# Altium integrated library Maxim_Integrated_Linear_Regulators.IntLib: 3 symbols
Pins are listed as number, name and electrical type; pins without a type are passive.

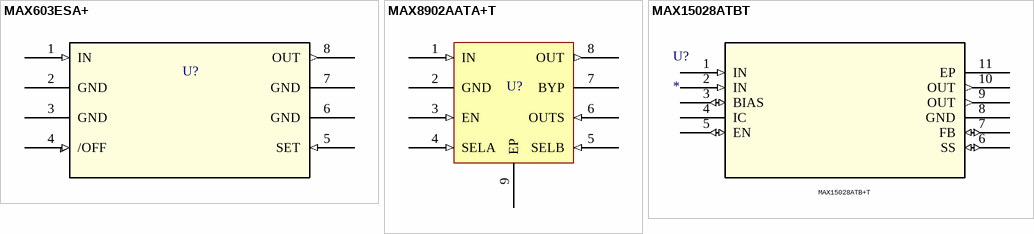
[diagram p0: symbols MAX603ESA+ to MAX15028ATBT]

## MAX603ESA+
designator U?  (value not drawn)
LDO Voltage Regulators 3.3/5/AdjV 500mA LDO; Manufacturer: Maxim Integrated; Manufacturer Part Number: MAX603ESA+; Output Voltage Range: 1.25 V to 11 V or 5 V; Quiescent Current: 35uA; Voltage Regulation Accuracy: 3%; Reference Voltage: 1.2V; Maximum Power Dissipation: 1.8W; Input Voltage Minimum: 2.9V; Supplier 1: Mouser; Supplier Part Number 1: 700-MAX603ESA; Max Output Current: 500mA; Datasheet: https://datasheets.maximintegrated.com/en/ds/MAX603-MAX604.pdf; Footprint: SO8_L
pins: 1 IN (in) "Regulator Input. Supply voltage can range from 2.7V to 11.5V.", 2 GND "Ground. These pins function as heatsinks, only in the SOIC package. All GND pins must be soldered to the  circuit board for proper power dissipation. Connect to large copper pads or planes to channel heat from the IC.", 3 GND "Ground. These pins function as heatsinks, only in the SOIC package. All GND pins must be soldered to the  circuit board for proper power dissipation. Connect to large copper pads or planes to channel heat from the IC.", 4 /OFF (in) "Shutdown, active low. Switch logic levels in less than 1μs with the high level above the OFF threshold.", 5 SET (in) "Feedback for Setting the Output Voltage. Connect to GND to set the output voltage to the preselected 5V. Connect to an external resistor network for adjustable output operation.", 6 GND "Ground. These pins function as heatsinks, only in the SOIC package. All GND pins must be soldered to the  circuit board for proper power dissipation. Connect to large copper pads or planes to channel heat from the IC.", 7 GND "Ground. These pins function as heatsinks, only in the SOIC package. All GND pins must be soldered to the  circuit board for proper power dissipation. Connect to large copper pads or planes to channel heat from the IC.", 8 OUT (out) "Regulator Output. Fixed or adjustable from 1.25V to 11.0V. Sources up to 500mA for input voltages above 4V."

## MAX8902AATA+T
designator U?  (value not drawn)
LDO Voltage Regulators 500mA LDO Regulator; Manufacturer: Maxim Integrated; Manufacturer Part Number: MAX8902AATA+T; Input Voltage Range: 1.7V to 5.5V; Output Voltage Range: 0.6V to 5.3V; Output Noise: 16uV (RMS) from 10Hz to 100KHz; PSRR at 5KHz: 92dB; Accuracy: +/- 1.5% (over load, line, and temperature); Output Voltage Selection: Pin selection; Supplier 1: Mouser; Supplier Part Number 1: 700-MAX8902AATAT; Datasheet: https://datasheets.maximintegrated.com/en/ds/MAX8902-MAX8902B.pdf
footprint 8 TDFN-EP
pins: 1 IN (in) "Regulator Power Input. Connect IN to a supply from 1.7V to 5.5V. Bypass IN with a 10uF ceramic capacitor to GND.", 2 GND "Ground", 3 EN (in) "Enable Input. A logic-low drives the output through a 3K resistor and reduces the supply current to less than 1uA. Drive logic-high or connect to IN for normal operation.", 4 SELA (in) "Output Voltage Select Input. Connect SELA to GND, IN, or leave unconnected. The states of SELA and SELB are sampled when the regulator turns on and the ouput voltage is set as shown in Table 2.", 5 SELB (in) "Output Voltage Select Input. Connect SELB to GND, IN, or leave unconnected. The states of SELA and SELB are sampled when the regulator turns on and the output voltage is set as shown in Table 2.", 6 OUTS (in) "Output Sense Input. Connect OUTS to the load at a point where accurate regulation is required, or connect OUTS directly to OUT.", 7 BYP "Bypass Input. Connect a 0.01uF ceramic capacitor from BYP to OUT to achieve 16uV(RMS) output noise. Adjust the value of this capacitor to control the output slew rate during startup. Slew Rate = (5V / ms) x (0.01uF / Cbyp)", 8 OUT (out) "Regulator Output. Sources up to 500mA at the output regulation voltage. Bypass with a 10uF ( < 0.03 ESR) capacitor to GND.", 9 EP "Exposed Paddle. Connect the exposed paddle to a ground plane o provide heat sinking."

## MAX15028ATBT
designator U?  Manufacturer_Part_Number: MAX15028ATB+T
1.425V to 3.6V Input, 1A Low-Dropout Regulators with BIAS Input; Vendor: Maxim; Manufacturer_Name: Maxim; RefDes: RefDes; Type: Type; Value: Value; Supplier 1: Mouser; Supplier Part Number 1: Mouser - 700-MAX15028ATBT; Datasheet: https://www.maximintegrated.com/en/products/power/linear-regulators/MAX15027.html
footprint 21-0137I_T1033-1
pins: 1 IN (in), 2 IN (in), 3 BIAS (io), 4 IC, 5 EN (io), 6 SS (io), 7 FB (io), 8 GND (power), 9 OUT (out), 10 OUT (out), 11 EP (power) "Exposed Pad"